# Altium schematic symbol library ISO1640QDWRQ1.SchLib: 2 symbols
Pins are listed as number, name and electrical type; pins without a type are passive.

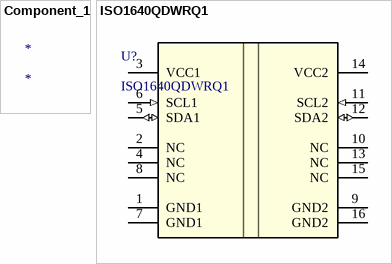
[diagram p0: symbols Component_1 to ISO1640QDWRQ1]

## Component_1
designator *

## ISO1640QDWRQ1
designator U?
No Description Available; Mfr_Name: Texas Instruments; Type: DEV; RefDes: RefDes; Copyright: Copyright (C) 2022 Ultra Librarian. All rights reserved.; Manufacturer_Part_Number: ISO1640QDWRQ1; Digi-Key_Part_Number_1: 296-ISO1640QDWRQ1TR-ND; Digi-Key_Part_Number_2: 296-ISO1640QDWRQ1CT-ND; Digi-Key_Part_Number_3: 296-ISO1640QDWRQ1DKR-ND
footprint DW0016A-IPC_A
pins: 1 GND1 (power), 2 NC, 3 VCC1 (power), 4 NC, 5 SDA1 (io), 6 SCL1 (in), 7 GND1 (power), 8 NC, 9 GND2 (power), 10 NC, 11 SCL2 (in), 12 SDA2 (io), 13 NC, 14 VCC2 (power), 15 NC, 16 GND2 (power)